# Altium footprint library 662006230822.PcbLib: 1 footprints
Each footprint in its own frame and in the unit in brackets; x right, y up, seen from the top. Pads: shape width x height; smd on the part's side, far side on the other; paste and mask are expansions set on the pad; w line width, h text height; cw(c..) or ccw(c..) is an arc to the next point about the centre after c.
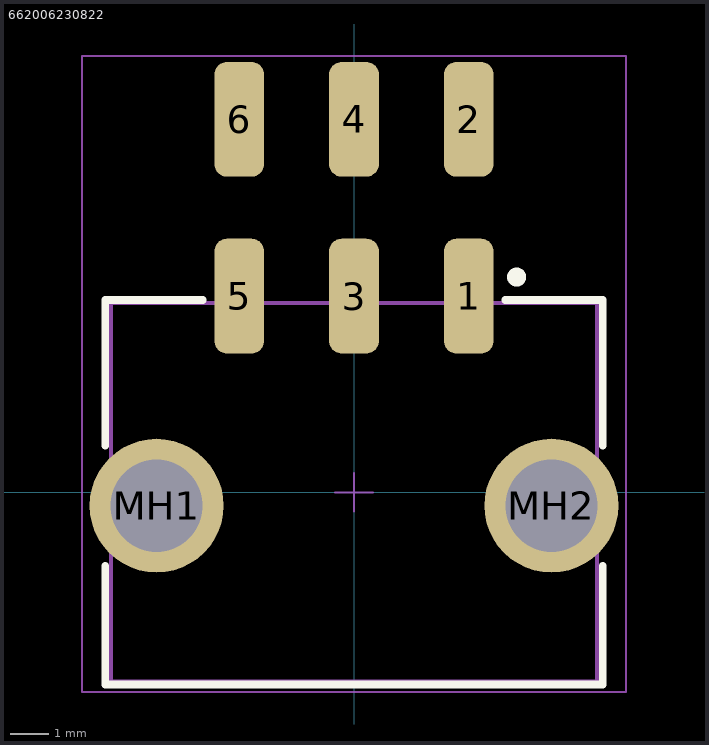
[diagram p0: the footprint, top view; thin cyan lines are the x and y axes]

## 662006230822 [mm] "Dual row SMT Right angle header With TH Metal Clip 06p"
height 8.76
pads (8):
  rrect50% 1.3x3 smd: 1(3,5.13) 2(3,9.75) 3(0,5.13) 4(0,9.75) 5(-3,5.13) 6(-3,9.75)
  round 3.5 hole 2.41: MH1(-5.16,-0.35) MH2(5.16,-0.35)
Top Overlay:
  circle w0.25: c4.25,5.625 r0.125
  lines w0.2: -6.5,-1.925 -6.5,-5.025 6.5,-5.025 6.5,-1.925 ; -6.5,1.225 -6.5,5.025 -3.95,5.025 ; 3.95,5.025 6.5,5.025 6.5,1.225
Top Assembly:
  lines w0.1: -6.35,-4.95 -6.35,4.95 6.35,4.95 6.35,-4.95 -6.35,-4.95
Top Courtyard:
  lines w0.05: -0.5,0 0.5,0 ; 0,-0.5 0,0.5 ; -7.11,-5.225 -7.11,11.41 7.11,11.41 7.11,-5.225 -7.11,-5.225
3D body "662006230822.stp": height 8.78, standoff -3.08, extent -6.35,-4.95 6.35,10.95